# EAGLE library part SA39-* (library king-displays)
9.9mm (0.39INCH) SINGLE DIGIT NUMERIC DISPLAY Description Features z 0.39 inch digit height. z Low current operation z Excellent character appearance. z Easy mounting on P.C. boards or sockets. z Mechanically rugged. z Standard : gray face, white segment. z RoHS compliant. How to order Family color SA39 11EWA = Red 12EWA = Red 11SRWA = ultra Red 12SRWA = ultra Red 11YWA = Yellow 12YWA = Yellow 11GWA = Green 12GWA = Green Ref: Datasheet <http://www.kingbrightusa.com/images/catalog/SPEC/SA03-11EWA.pdf>
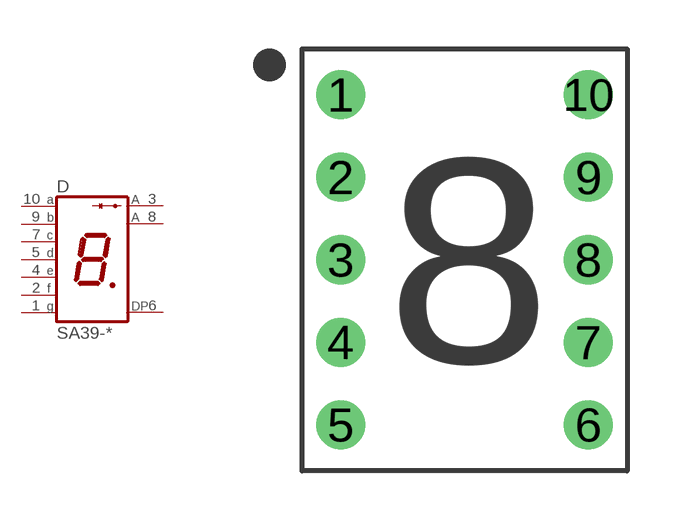
[diagram p2: symbol with the pads of SX39P1000X1300-10S; footprint SX39P1000X1300-10S]

Designator prefix D

## SA39-@  [SX39P1000X1300-10S]
1  G  pas
2  F  pas
3  A  pas
4  E  pas
5  D  pas
6  DP  pas
7  C  pas
8  A  pas
9  B  pas
10  A  pas

## Footprint SX39P1000X1300-10S (pad centres in mm)
Single led display 10.0mm L x 13.00mm W x 8.5mm H ----------------------------------------------
drill 1: 1 -3.81,5.08; 2 -3.81,2.54; 3 -3.81,0; 4 -3.81,-2.54; 5 -3.81,-5.08; 6 3.81,-5.08; 7 3.81,-2.54; 8 3.81,0; 9 3.81,2.54; 10 3.81,5.08